# Altium footprint library 2059720031.PcbLib: 1 footprints
Each footprint in its own frame and in the unit in brackets; x right, y up, seen from the top. Pads: shape width x height; smd on the part's side, far side on the other; paste and mask are expansions set on the pad; w line width, h text height; cw(c..) or ccw(c..) is an arc to the next point about the centre after c.
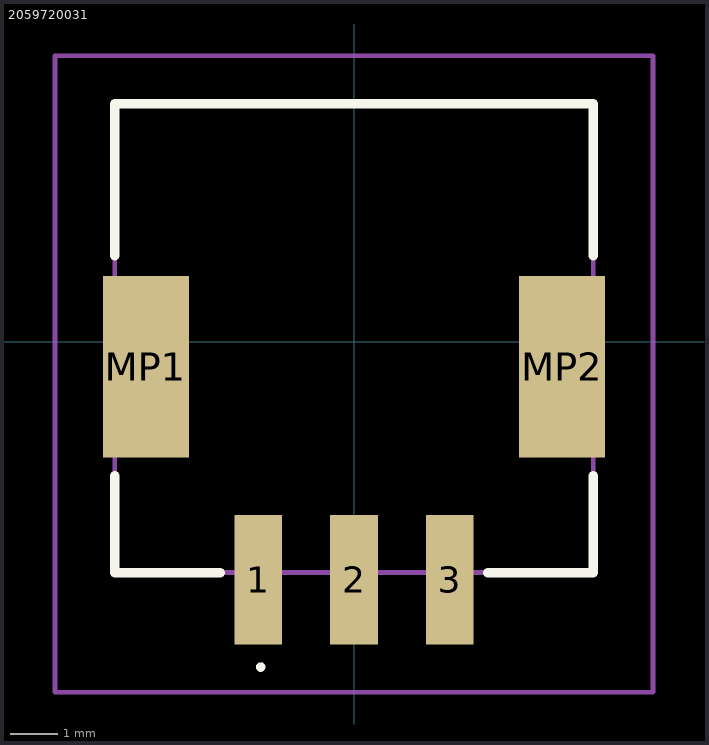
[diagram p0: the footprint, top view; thin cyan lines are the x and y axes]

## 2059720031 [mm]
pads (5):
  rect 1x2.7 smd: 1(-2,-4.975) 2(0,-4.975) 3(2,-4.975)
  rect 1.8x3.8 smd: MP1(-4.35,-0.525) MP2(4.35,-0.525)
Top Overlay:
  lines w0.1: -2,-6.8 -2,-6.8 ; -2,-6.8 ccw(c-1.95,-6.8) -1.9,-6.8 ; -2,-6.8 cw(c-1.95,-6.8) -1.9,-6.8 ; -1.9,-6.8 -1.9,-6.8
  lines w0.2: -5,-2.8 -5,-4.825 -2.8,-4.825 ; -5,1.8 -5,4.975 5,4.975 5,1.8 ; 2.8,-4.825 5,-4.825 5,-2.8
Mechanical 15:
  lines w0.1: -5,-4.825 5,-4.825 5,4.975 -5,4.975 -5,-4.825
Mechanical 20:
  lines w0.1: -6.25,-7.325 6.25,-7.325 6.25,5.975 -6.25,5.975 -6.25,-7.325